# Altium footprint library SOLAR_SM141K06L.PcbLib: 1 footprints
Each footprint in its own frame and in the unit in brackets; x right, y up, seen from the top. Pads: shape width x height; smd on the part's side, far side on the other; paste and mask are expansions set on the pad; w line width, h text height; cw(c..) or ccw(c..) is an arc to the next point about the centre after c.
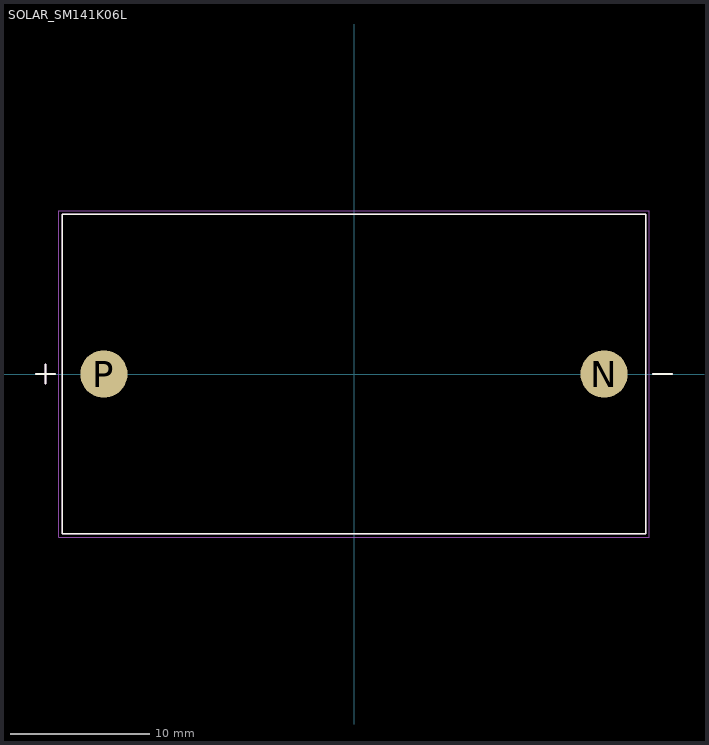
[diagram p0: the footprint, top view; thin cyan lines are the x and y axes]

## SOLAR_SM141K06L [mm]
height 2.1
pads (2):
  round 3.4 smd: N(18,0) P(-18,0)
Top Overlay:
  lines w0.127: -22.9,0 -21.5,0 ; -22.2,-0.7 -22.2,0.7 ; 21.5,0 22.9,0 ; -21,-11.5 -21,11.5 21,11.5 21,-11.5 -21,-11.5
Mechanical 13:
  lines w0.127: -22.9,0 -21.5,0 ; -22.2,-0.7 -22.2,0.7 ; 21.5,0 22.9,0 ; -21,-11.5 -21,11.5 21,11.5 21,-11.5 -21,-11.5
Mechanical 15:
  lines w0.05: -21.25,-11.75 -21.25,11.75 21.25,11.75 21.25,-11.75 -21.25,-11.75